# EAGLE library part 250-111 (library con-wago_250)
Serie 250, 1-Leiter-Klemmenleiste für Leiterplatten 1 Lötstift/Pol vorn / Series 250, 1-conductor PCB terminal strip 1 front solder pin/pole Polzahl / Pole No.: 11 Rastermaß / Pitch: 3.5 mm Bemessungsspannung / Rated Voltage: 160 V Nennstrom / Nominal Current: 8 A Leiterquerschnitt / Conductor Size: 0.2 - 1.5 mm² Anschlusstechnik / Connection Technology: Steckklemm-Anschluss Lötstiftlänge: / Solder Pin Length: 3.6 mm Leitereinführung (zur Platine) / Conductor entry angle (to PCB): 45 ° Farbe / Color: grau / gray Stand: 01.01.2012. Die jeweils aktuellen Daten zu diesem Artikel finden Sie in unserem Produktkatalog, den Sie unter www.wago.com einsehen können. As of: 01/01/2012. Please find the newest data for this article in our product catalogue, which can be viewed under www.wago.com.
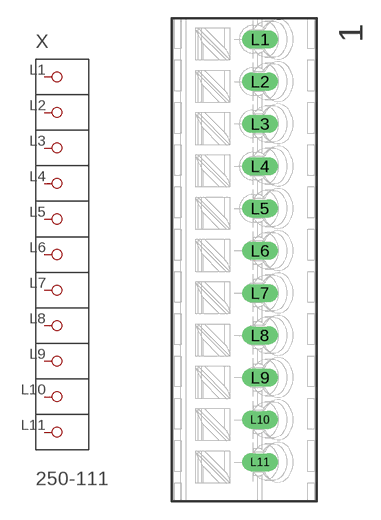
[diagram p0: symbol with the pads of P-250-111; footprint P-250-111]

Designator prefix X

## 250-111  [P-250-111]
L1  P1
L2  P2
L3  P3
L4  P4
L5  P5
L6  P6
L7  P7
L8  P8
L9  P9
L10  P10
L11  P11

## Footprint P-250-111 (pad centres in mm)
drill 1 long: L1 1.3,18.25; L2 1.3,14.75; L3 1.3,11.25; L4 1.3,7.75; L5 1.3,4.25; L6 1.3,0.75; L7 1.3,-2.75; L8 1.3,-6.25; L9 1.3,-9.75; L10 1.3,-13.25; L11 1.3,-16.75